# Altium footprint library DE-220124.PcbLib: 98 footprints (part 3 of 7)
Each footprint in its own frame and in the unit in brackets; x right, y up, seen from the top. Pads: shape width x height; smd on the part's side, far side on the other; paste and mask are expansions set on the pad; w line width, h text height; cw(c..) or ccw(c..) is an arc to the next point about the centre after c.
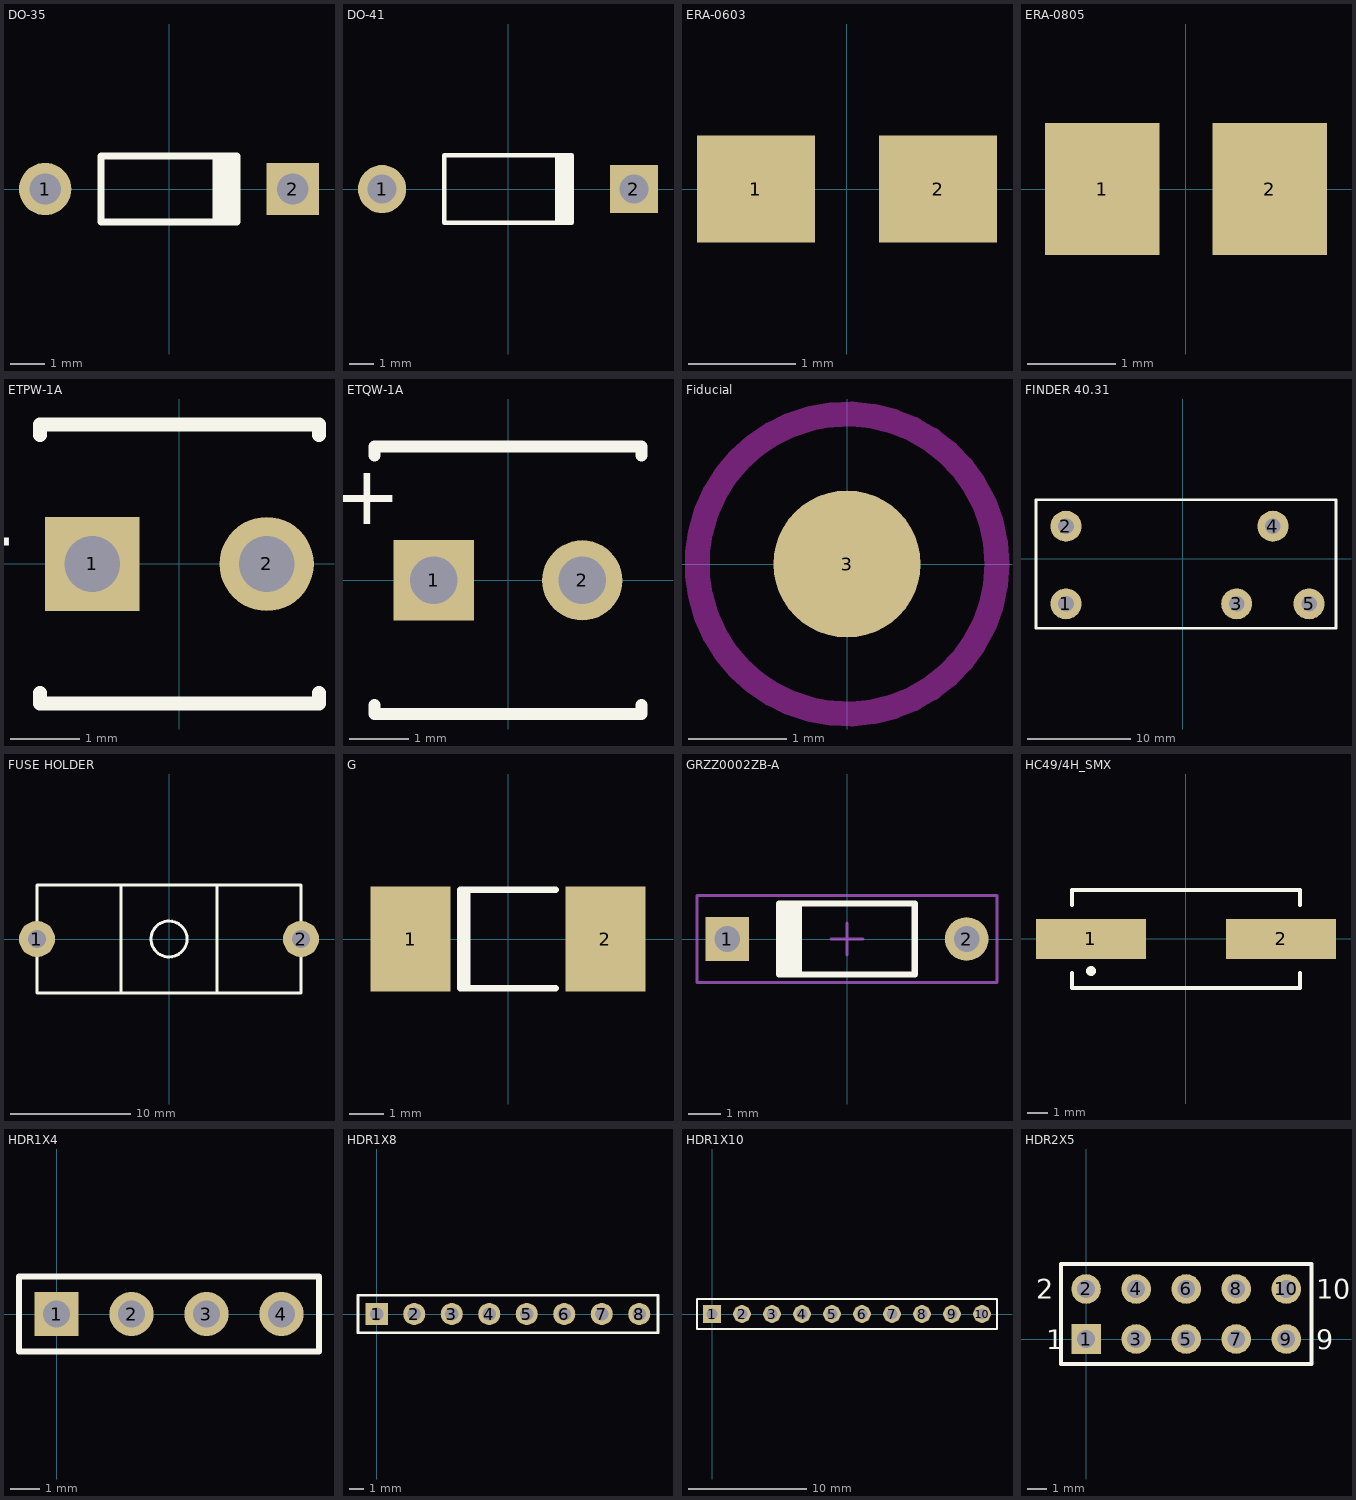
[diagram p2: the footprints below, top view; thin cyan lines are the x and y axes]

## DO-35 [mm] "Diode, Axial; Body 3.8 x 1.9 mm (LxDia. max), Lead Dia. 0.53 mm (max)"
height 1.9
pads (2):
  round 1.5 hole 0.9: 1(-3.55,0)
  rect 1.5x1.5 hole 0.9: 2(3.55,0)
Top Overlay:
  rectangle: 1.25,-0.95 2.05,0.95
  lines w0.2: 1.95,-0.95 -1.95,-0.95 -1.95,0.95 1.95,0.95

## DO-41 [mm] "Diode, Axial; Body 5.2 x 2.7 mm (LxDia. max), Lead Dia. 0.86 mm (max)"
height 2.8
pads (2):
  round 2 hole 1.2: 1(-5.23,0)
  rect 2x2 hole 1.2: 2(5.23,0)
Top Overlay:
  rectangle: 1.95,-1.398 2.75,1.402
  lines w0.2: 2.65,-1.4 -2.65,-1.4 -2.65,1.4 2.65,1.4

## ERA-0603 [mm] "Chip Resistor; Body 1.6 x 0.8 mm (LxW typ)"
height 0.55
pads (2):
  rect 1.1x1 smd: 1(-0.85,0) 2(0.85,0)

## ERA-0805 [mm] "Chip Resistor; Body 2 x 1.3 mm (LxW typ)"
height 0.6
pads (2):
  rect 1.3x1.5 smd: 1(-0.95,0) 2(0.95,0)

## ETPW-1A [mm] "Capacitor, Tantalum Bead; Body 4 x 7.1 mm (Dia.xH max); Pin Spacing 2.5 mm (typ)"
height 7.1
pads (2):
  rect 1.35x1.35 hole 0.8: 1(-1.25,0)
  round 1.35 hole 0.8: 2(1.25,0)
Top Overlay:
  lines w0.2: -2,-1.85 -2,-2 2,-2 2,-1.85 ; -2,1.85 -2,2 2,2 2,1.85
  text "+" at -2.3,0.75 h1

## ETQW-1A [mm] "Capacitor, Tantalum Bead; Body 4.5 x 7.5 mm (Dia.xH max); Pin Spacing 2.5 mm (typ)"
height 7.5
pads (2):
  rect 1.35x1.35 hole 0.8: 1(-1.25,0)
  round 1.35 hole 0.8: 2(1.25,0)
Top Overlay:
  lines w0.2: -2.25,-2.1 -2.25,-2.25 2.25,-2.25 2.25,-2.1 ; -2.25,2.1 -2.25,2.25 2.25,2.25 2.25,2.1
  text "+" at -1.8,1.8 h1

## Fiducial [mm] "Pick and place machine mark"
height 10
pads (1):
  round 1.5 smd paste+0 mask+0.8: 3(0,0)
Keep-Out Layer:
  circle w0.254: c0,0 r1.529

## FINDER 40.31 [mm] "Finder raly tip 40.31"
height 20
pads (5):
  round 3 hole 1.5: 1(-11.3,-4.35) 2(-11.3,3.15) 3(5.2,-4.35) 4(8.7,3.15) 5(12.2,-4.35)
Top Overlay:
  lines w0.254: 14.788,5.7 -14.2,5.7 -14.2,-6.7 14.8,-6.7 14.8,5.7

## FUSE HOLDER [mm] "Fuse holder"
height 13
pads (2):
  round 3 hole 1.5: 1(-11,0) 2(11,0)
Top Overlay:
  circle w0.254: c0,0 r1.5
  lines w0.254: -4,-4.5 -4,4.5 ; 4,-4.5 4,4.5 ; -11,-4.5 11,-4.5 11,4.5 -11,4.5 -11,-4.5
3D body: height 13, standoff 0, extent -11,-4 11,4

## G [mm] "Chip Capacitor; Body 6.73 x 2.79 mm (LxW typ)"
height 3.18
pads (2):
  rect 2.35x3.1 smd: 1(-2.875,0) 2(2.875,0)
Top Overlay:
  lines w0.2: -1.21,-1.45 -1.21,1.45 ; 1.4,-1.45 -1.4,-1.45 -1.4,1.45 1.4,1.45

## GRZZ0002ZB-A [mm] "Diode, Axial; Body 4.2 x 2.2 mm (LxDia. max), Lead Dia. 0.5 mm (nom)"
height 2.2
pads (2):
  rect 1.35x1.35 hole 0.8: 1(-3.71,0)
  round 1.35 hole 0.8: 2(3.71,0)
Top Overlay:
  region: -1.4,1.1 -2.2,1.1 -2.2,-1.1 -1.4,-1.1
  lines w0.2: -2.1,-1.1 2.1,-1.1 2.1,1.1 -2.1,1.1
Mechanical 13:
  region: -1.401,1.05 -2.151,1.05 -2.151,-1.05 -1.401,-1.05
  lines w0.1: -2.1,-1.1 -2.1,1.1 2.1,1.1 2.1,-1.1 -2.1,-1.1
Mechanical 15:
  lines w0.1: -0.5,0 0.5,0 ; 0,-0.5 0,0.5 ; -4.65,-1.35 -4.65,1.35 4.65,1.35 4.65,-1.35 -4.65,-1.35
3D body: height 2.2, standoff 0, extent -2.099,-1.099 2.101,1.096

## HC49/4H_SMX [mm] "Surface Mount Quartz Crystal; Body 13.4 (inc. leads) x 4.9 mm (LxW max)"
height 4.3
pads (2):
  rect 5.5x2 smd: 1(-4.75,0) 2(4.75,0)
Top Overlay:
  circle w0.25: c-4.75,-1.6 r0.125
  lines w0.2: -5.7,-1.7 -5.7,-2.45 5.7,-2.45 5.7,-1.7 ; -5.7,1.7 -5.7,2.45 5.7,2.45 5.7,1.7

## HDR1X4 [mm] "Connector; Header; 4 Position"
pads (4):
  rect 1.5x1.5 hole 0.9: 1(0,0)
  round 1.5 hole 0.9: 2(2.54,0) 3(5.08,0) 4(7.62,0)
Top Overlay:
  lines w0.2: -1.27,-1.27 -1.27,1.27 8.89,1.27 8.89,-1.27 -1.27,-1.27

## HDR1X8 [mm] "Connector; Header; 8 Position"
pads (8):
  rect 1.5x1.5 hole 0.9: 1(0,0)
  round 1.5 hole 0.9: 2(2.54,0) 3(5.08,0) 4(7.62,0) 5(10.16,0) 6(12.7,0) 7(15.24,0) 8(17.78,0)
Top Overlay:
  lines w0.2: -1.27,-1.27 19.05,-1.27 19.05,1.27 -1.27,1.27 -1.27,-1.27

## HDR1X10 [mm] "Connector; Header; 10 Position"
pads (10):
  rect 1.5x1.5 hole 0.9: 1(0,0)
  round 1.5 hole 0.9: 2(2.54,0) 3(5.08,0) 4(7.62,0) 5(10.16,0) 6(12.7,0) 7(15.24,0) 8(17.78,0) 9(20.32,0) 10(22.86,0)
Top Overlay:
  lines w0.2: -1.27,-1.27 -1.27,1.27 0.635,1.27 24.13,1.27 24.13,-1.27 -1.27,-1.27

## HDR2X5 [mm] "Connector; Header; 5x2 Position"
pads (10):
  rect 1.5x1.5 hole 0.9: 1(0,0)
  round 1.5 hole 0.9: 2(0,2.54) 3(2.54,0) 4(2.54,2.54) 5(5.08,0) 6(5.08,2.54) 7(7.62,0) 8(7.62,2.54) 9(10.16,0) 10(10.16,2.54)
Top Overlay:
  lines w0.2: -1.27,-1.27 11.43,-1.27 11.43,3.81 -1.27,3.81 -1.27,-1.27
  text "10" at 11.684,2.032 h1
  text "9" at 11.684,-0.508 h1
  text "1" at -2.032,-0.508 h1
  text "2" at -2.54,2.032 h1